# Altium footprint library PcbLib1.PcbLib: 5 footprints
Each footprint in its own frame and in the unit in brackets; x right, y up, seen from the top. Pads: shape width x height; smd on the part's side, far side on the other; paste and mask are expansions set on the pad; w line width, h text height; cw(c..) or ccw(c..) is an arc to the next point about the centre after c.
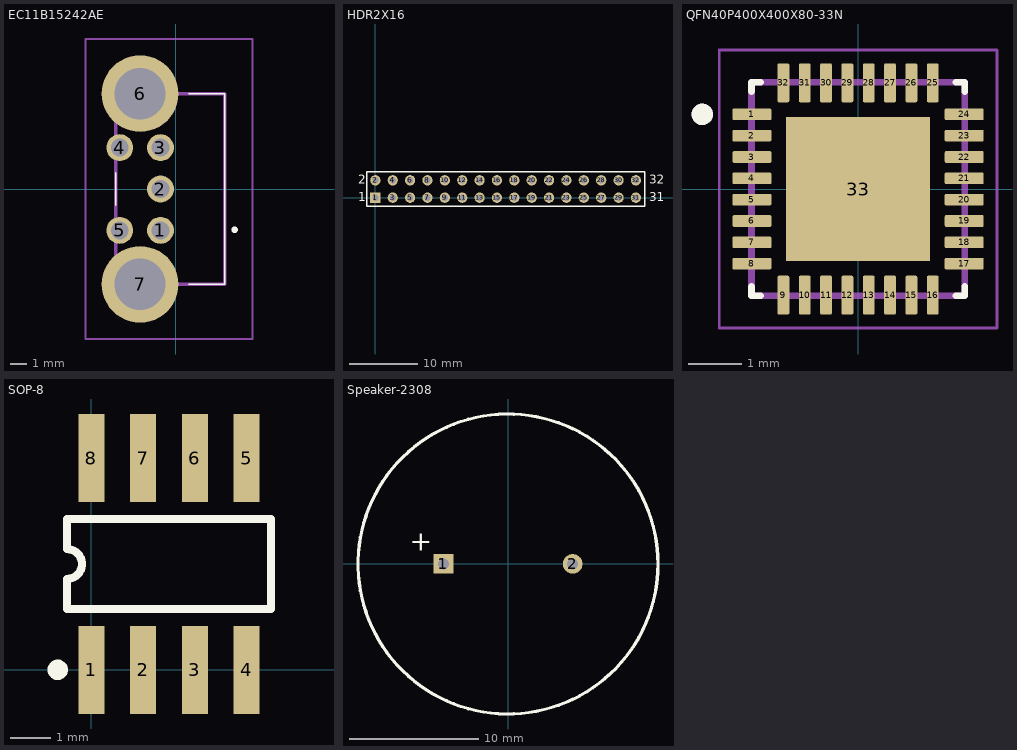
[diagram p0: the footprints below, top view; thin cyan lines are the x and y axes]

## EC11B15242AE [mm]
pads (7):
  round 1.65 hole 1.1: 1(-0.95,-2.54) 2(-0.95,0) 3(-0.95,2.54) 4(-3.45,2.54) 5(-3.45,-2.54)
  round 4.71 hole 3.14: 6(-2.2,5.85) 7(-2.2,-5.85)
Top Overlay:
  lines w0.1: -3.7,-1 -3.7,1 ; 0.8,-5.85 3,-5.85 3,5.85 0.8,5.85
  lines w0.2: 3.6,-2.6 ccw(c3.6,-2.5) 3.6,-2.4 ccw(c3.6,-2.5) 3.6,-2.6
Mechanical 13:
  lines w0.2: -3.7,-5.85 -3.7,5.85 3,5.85 3,-5.85 -3.7,-5.85
Mechanical 15:
  lines w0.1: -5.555,-9.205 -5.555,9.205 4.7,9.205 4.7,-9.205 -5.555,-9.205
3D body "EC11B15242AE.stp": height 13.1, standoff -5, extent -3.896,-7.317 3,7.317

## HDR2X16 [mm]
pads (32):
  rect 1.5x1.5 hole 0.9: 1(0,0)
  round 1.5 hole 0.9: 2(0,2.54) 3(2.54,0) 4(2.54,2.54) 5(5.08,0) 6(5.08,2.54) 7(7.62,0) 8(7.62,2.54) 9(10.16,0) 10(10.16,2.54) 11(12.7,0) 12(12.7,2.54) 13(15.24,0) 14(15.24,2.54) 15(17.78,0) 16(17.78,2.54) 17(20.32,0) 18(20.32,2.54) 19(22.86,0) 20(22.86,2.54) 21(25.4,0) 22(25.4,2.54) 23(27.94,0) 24(27.94,2.54) 25(30.48,0) 26(30.48,2.54) 27(33.02,0) 28(33.02,2.54) 29(35.56,0) 30(35.56,2.54) 31(38.1,0) 32(38.1,2.54)
Top Overlay:
  lines w0.2: -1.27,-1.27 39.37,-1.27 39.37,3.81 -1.27,3.81 -1.27,-1.27
  text "32" at 40.056,2.032 h1.27
  text "31" at 40.056,-0.508 h1.27
  text "1" at -2.54,-0.508 h1.27
  text "2" at -2.54,2.032 h1.27

## QFN40P400X400X80-33N [mm]
pads (33):
  rrect25% 0.73x0.22 smd: 1(-1.99,1.4) 2(-1.99,1) 3(-1.99,0.6) 4(-1.99,0.2) 5(-1.99,-0.2) 6(-1.99,-0.6) 7(-1.99,-1) 8(-1.99,-1.4) 17(1.99,-1.4) 18(1.99,-1) 19(1.99,-0.6) 20(1.99,-0.2) 21(1.99,0.2) 22(1.99,0.6) 23(1.99,1) 24(1.99,1.4)
  rrect25% 0.22x0.73 smd: 9(-1.4,-1.99) 10(-1,-1.99) 11(-0.6,-1.99) 12(-0.2,-1.99) 13(0.2,-1.99) 14(0.6,-1.99) 15(1,-1.99) 16(1.4,-1.99) 25(1.4,1.99) 26(1,1.99) 27(0.6,1.99) 28(0.2,1.99) 29(-0.2,1.99) 30(-0.6,1.99) 31(-1,1.99) 32(-1.4,1.99)
  rect 2.7x2.7 smd paste-2: 33(0,0)
Top Overlay:
  circle w0.2: c-2.92,1.4 r0.1
  lines w0.127: -2,-1.83 -2,-2 -1.83,-2 ; -2,1.83 -2,2 -1.83,2 ; 1.83,-2 2,-2 2,-1.83 ; 1.83,2 2,2 2,1.83
Top Paste:
  region: 0.85,-0.85 -0.85,-0.85 -0.85,0.85 0.85,0.85
Mechanical 13:
  circle w0.2: c-2.92,1.4 r0.1
  lines w0.127: -2,-2 -2,2 2,2 2,-2 -2,-2
Mechanical 15:
  lines w0.05: -2.605,-2.605 -2.605,2.605 2.605,2.605 2.605,-2.605 -2.605,-2.605
3D body "step_temp.STEP": height 0.75, standoff -0.05, extent -2,-2 2,2

## SOP-8 [mil]
pads (8):
  rect 25x85 smd: 1(0,0) 2(50,0) 3(100,0) 4(150,0) 5(150,204.72) 6(100,204.72) 7(50,204.72) 8(0,204.72)
Top Overlay:
  circle w9.84: c-32.48,0.2 r4.92
  lines w7.87: -23.43,87.93 ccw(c-23.43,102.36) -23.43,116.8 -23.43,145.67 173.43,145.67 173.43,59.05 -23.43,59.05 -23.43,87.93
3D body "User Library-so8-3.STEP": height 66.93, standoff 0, extent -21.66,-13.11 171.25,223.11

## Speaker-2308 [mm]
pads (2):
  rect 1.524x1.524 hole 0.85: 1(-5,0)
  round 1.524 hole 0.85: 2(5,0)
Top Overlay:
  circle w0.254: c-0.004,-0.013 r11.6
  text "+" at -7.62,1.016 h1.52